# EAGLE library part AD9851 (library kamiki)
CMOS 180MHz DDS/DAC Synthesizer
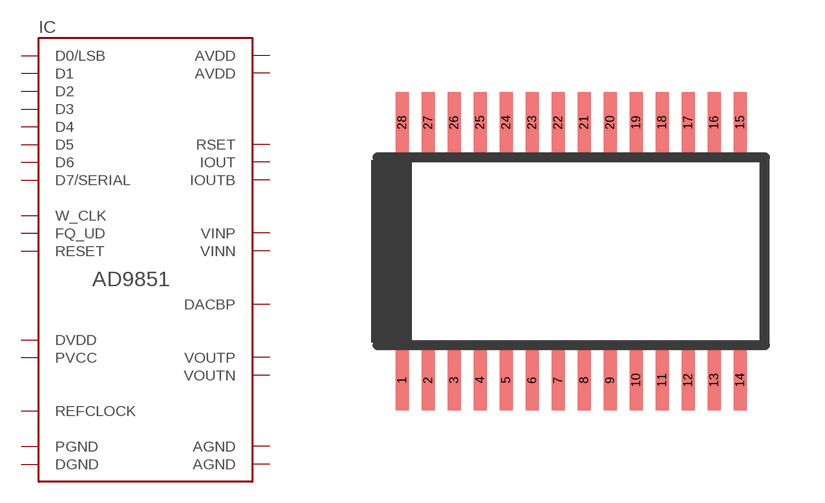
[diagram p4: symbol with the pads of TSSOP28; footprint TSSOP28]

Designator prefix IC

## AD9851  [TSSOP28]
1  D3
2  D2
3  D1
4  D0/LSB
5  PGND  pwr
6  PVCC  pwr
7  W_CLK  in
8  FQ_UD  in
9  REFCLOCK  in
10  AGND  pwr
11  AVDD  pwr
12  RSET  pas
13  VOUTN  pas
14  VOUTP  pas
15  VINN  in
16  VINP  in
17  DACBP  pas
18  AVDD  pwr
19  AGND  pwr
20  IOUTB  out
21  IOUT  out
22  RESET  in
23  DVDD  pwr
24  DGND  pwr
25  D7/SERIAL
26  D6
27  D5
28  D4

## Footprint TSSOP28 (pad centres in mm)
Shrink Small Outline Package package type SS
smd 0.32 x 1.5: 1 -4.225,-3.225; 2 -3.575,-3.225; 3 -2.925,-3.225; 4 -2.275,-3.225; 5 -1.625,-3.225; 6 -0.975,-3.225; 7 -0.325,-3.225; 8 0.325,-3.225; 9 0.975,-3.225; 10 1.625,-3.225; 11 2.275,-3.225; 12 2.925,-3.225; 13 3.575,-3.225; 14 4.225,-3.225; 15 4.225,3.225; 16 3.575,3.225; 17 2.925,3.225; 18 2.275,3.225; 19 1.625,3.225; 20 0.975,3.225; 21 0.325,3.225; 22 -0.325,3.225; 23 -0.975,3.225; 24 -1.625,3.225; 25 -2.275,3.225; 26 -2.925,3.225; 27 -3.575,3.225; 28 -4.225,3.225